# EAGLE library part MODERNDEVICE_M08 (library BBLeo_v2)
Header 8 Standard 8-pin 0.1" header. Use with straight break away headers (SKU : PRT-00116), right angle break away headers (PRT-00553), swiss pins (PRT-00743), machine pins (PRT-00117), and female headers (PRT-00115).
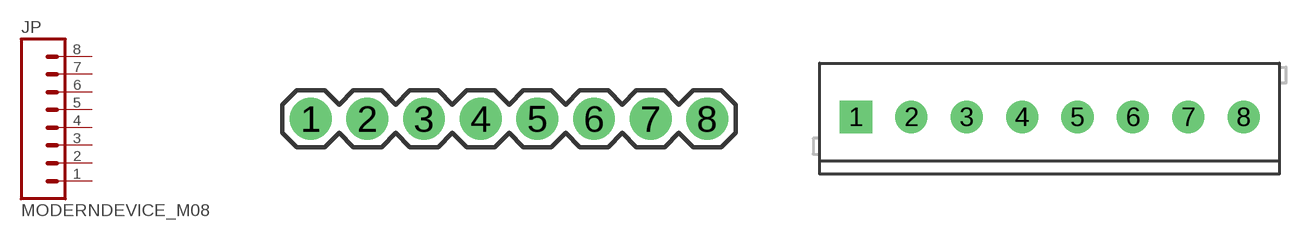
[diagram p1: symbol with the pads of MODERNDEVICE_1X08; footprints MODERNDEVICE_1X08, MODERNDEVICE_SCREWTERMINAL-3.5MM-8]

Designator prefix JP

## MODERNDEVICE_M08  [MODERNDEVICE_1X08]
1  1  pas
2  2  pas
3  3  pas
4  4  pas
5  5  pas
6  6  pas
7  7  pas
8  8  pas

## MODERNDEVICE_M083.5MM-8  [MODERNDEVICE_SCREWTERMINAL-3.5MM-8]
Pads as for MODERNDEVICE_1X08

## MODERNDEVICE_M08035DRILL  [MODERNDEVICE_1X08_035DRILL]
Pads as for MODERNDEVICE_1X08

## MODERNDEVICE_M08LOCK  [MODERNDEVICE_1X08_LOCK]
Pads as for MODERNDEVICE_1X08

## MODERNDEVICE_M08LOCK_LONGPADS  [MODERNDEVICE_1X08_LOCK_LONGPADS]
Pads as for MODERNDEVICE_1X08

## MODERNDEVICE_M08LONGPADS  [MODERNDEVICE_1X08_LONGPADS]
Pads as for MODERNDEVICE_1X08

## MODERNDEVICE_M08SMD-STRAIGHT  [MODERNDEVICE_1X08_SMD]
Pads as for MODERNDEVICE_1X08

## MODERNDEVICE_M08SMD-STRAIGHT-ALT  [MODERNDEVICE_1X08_SMD_ALT]
Pads as for MODERNDEVICE_1X08

## Footprint MODERNDEVICE_1X08 (pad centres in mm)
drill 0.9 pad 1.88: 1 0,0; 2 2.54,0; 3 5.08,0; 4 7.62,0; 5 10.16,0; 6 12.7,0; 7 15.24,0; 8 17.78,0

## Footprint MODERNDEVICE_SCREWTERMINAL-3.5MM-8 (pad centres in mm)
drill 1.2 pad 2.032 square: 1 0,0
drill 1.2 pad 2.032: 2 3.5,0; 3 7,0; 4 10.5,0; 5 14,0; 6 17.5,0; 7 21,0; 8 24.5,0

## Footprint MODERNDEVICE_1X08_035DRILL (pad centres in mm)
drill 0.9 pad 1.88: 1 -8.89,0; 2 -6.35,0; 3 -3.81,0; 4 -1.27,0; 5 1.27,0; 6 3.81,0; 7 6.35,0; 8 8.89,0

## Footprint MODERNDEVICE_1X08_LOCK (pad centres in mm)
drill 1.016 pad 1.88 square: 1 0,0.127
drill 1.016 pad 1.88: 2 2.54,-0.127; 3 5.08,0.127; 4 7.62,-0.127; 5 10.16,0.127; 6 12.7,-0.127; 7 15.24,0.127; 8 17.78,-0.127

## Footprint MODERNDEVICE_1X08_LOCK_LONGPADS (pad centres in mm)
drill 1.016 long: 1 0,0.127; 2 2.54,-0.127; 3 5.08,0.127; 4 7.62,-0.127; 5 10.16,0.127; 6 12.7,-0.127; 7 15.24,0.127; 8 17.78,-0.127

## Footprint MODERNDEVICE_1X08_LONGPADS (pad centres in mm)
drill 1.118 pad 1.88 long: 1 0,0; 2 2.54,0; 3 5.08,0; 4 7.62,0; 5 10.16,0; 6 12.7,0; 7 15.24,0; 8 17.78,0

## Footprint MODERNDEVICE_1X08_SMD (pad centres in mm)
smd 1 x 2: 1 0,1.65; 2 -2.54,-1.65; 3 -5.08,1.65; 4 -7.62,-1.65; 5 -10.16,1.65; 6 -12.7,-1.65; 7 -15.24,1.65; 8 -17.78,-1.65

## Footprint MODERNDEVICE_1X08_SMD_ALT (pad centres in mm)
smd 1 x 2: 1 0,-1.65; 2 -2.54,1.65; 3 -5.08,-1.65; 4 -7.62,1.65; 5 -10.16,-1.65; 6 -12.7,1.65; 7 -15.24,-1.65; 8 -17.78,1.65